# Altium footprint library Reg_Fairchild_LM7805CT_eec_0.PcbLib: 1 footprints
Each footprint in its own frame and in the unit in brackets; x right, y up, seen from the top. Pads: shape width x height; smd on the part's side, far side on the other; paste and mask are expansions set on the pad; w line width, h text height; cw(c..) or ccw(c..) is an arc to the next point about the centre after c.
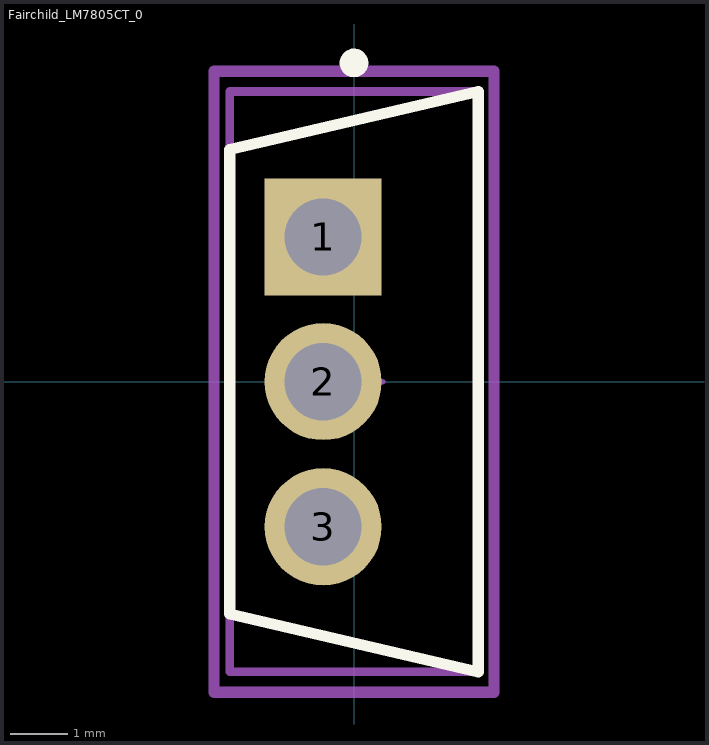
[diagram p0: the footprint, top view; thin cyan lines are the x and y axes]

## Fairchild_LM7805CT_0 [mm]
pads (3):
  rect 2.05x2.05 hole 1.35 paste-1000 mask+0: 1(-0.54,2.535)
  round 2.05 hole 1.35 paste-1000 mask+0: 2(-0.54,0) 3(-0.54,-2.54)
Top Overlay:
  circle w0.25: c0,5.579 r0.125
  lines w0.2: 2.175,-5.079 -2.175,-4.063 -2.175,4.063 2.175,5.079 ; 2.175,-5.029 2.175,5.029
Mechanical 10:
  lines w0.2: -2.45,-5.435 2.45,-5.435 2.45,5.435 -2.45,5.435 -2.45,-5.435
  text ".Designator" at 0,0 h1
Mechanical 12:
  lines w0.15: -2.175,-5.08 2.175,-5.08 2.175,5.08 -2.175,5.08 -2.175,-5.08
Mechanical 15:
  lines w0.1: -0.5,0 0.5,0 ; 0,-0.5 0,0.5
  lines w0.2: -2.45,-5.435 2.45,-5.435 2.45,5.435 -2.45,5.435 -2.45,-5.435
3D body "3dmodel.step": height 0.25, standoff 0, extent -2.45,-5.435 2.45,5.435